# Altium footprint library VFQFPN-36_6x6x05P.PcbLib: 1 footprints
Each footprint in its own frame and in the unit in brackets; x right, y up, seen from the top. Pads: shape width x height; smd on the part's side, far side on the other; paste and mask are expansions set on the pad; w line width, h text height; cw(c..) or ccw(c..) is an arc to the next point about the centre after c.
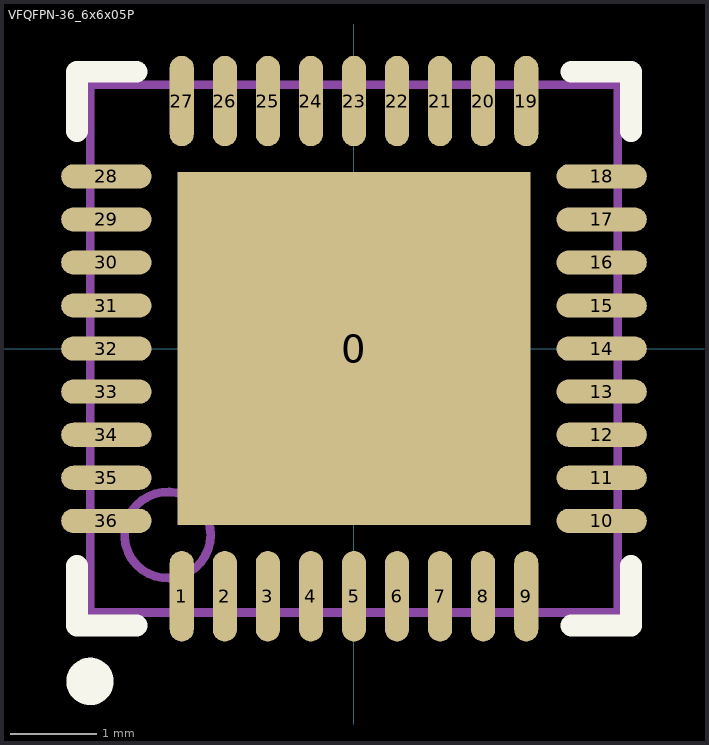
[diagram p0: the footprint, top view; thin cyan lines are the x and y axes]

## VFQFPN-36_6x6x05P [mm]
pads (37):
  rect 4.1x4.1 smd mask+0.051: 0(0,0)
  oval 0.28x1.05 smd mask+0.051: 1(-2,-2.875) 2(-1.5,-2.875) 3(-1,-2.875) 4(-0.5,-2.875) 5(0,-2.875) 6(0.5,-2.875) 7(1,-2.875) 8(1.5,-2.875) 9(2,-2.875) 19(2,2.875) 20(1.5,2.875) 21(1,2.875) 22(0.5,2.875) 23(0,2.875) 24(-0.5,2.875) 25(-1,2.875) 26(-1.5,2.875) 27(-2,2.875)
  oval 1.05x0.28 smd mask+0.051: 10(2.875,-2) 11(2.875,-1.5) 12(2.875,-1) 13(2.875,-0.5) 14(2.875,0) 15(2.875,0.5) 16(2.875,1) 17(2.875,1.5) 18(2.875,2) 28(-2.875,2) 29(-2.875,1.5) 30(-2.875,1) 31(-2.875,0.5) 32(-2.875,0) 33(-2.875,-0.5) 34(-2.875,-1) 35(-2.875,-1.5) 36(-2.875,-2)
Top Overlay:
  circle w0.3: c-3.065,-3.865 r0.125
  lines w0.254: -3.215,-2.525 -3.215,-3.215 -2.525,-3.215 ; -3.215,2.525 -3.215,3.215 -2.525,3.215 ; 2.525,-3.215 3.215,-3.215 3.215,-2.525 ; 2.525,3.215 3.215,3.215 3.215,2.525
Mechanical 13:
  circle w0.1: c-2.165,-2.165 r0.5
  lines w0.1: -3.065,-3.065 -3.065,3.065 3.065,3.065 3.065,-3.065 -3.065,-3.065